# EAGLE library part VENUS638FLPX-L (library UNMODIFIED-SparkFun-GPS)
Venus638FLPX-L GPS Receiver Venus638FLPx is a high performance, low cost, single chip GPS receiver targeting mobile consumer and cellular handset applications. It offers very low power consumption, high sensitivity, and best in class signal acquisition and time-to-first-fix performance. Venus638FLPx contains all the necessary components of a complete GPS receiver, includes 1.2dB cascaded system NF RF front-end, GPS baseband signal processor, 0.5ppm TCXO, 32.768kHz RTC crystal, RTC LDO regulator, and passive components. It requires very low external component count and takes up only 100mm2 PCB footprint. Dedicated massive-correlator signal parameter search engine within the baseband enables rapid search of all the available satellites and acquisition of very weak signal. An advanced track engine allows weak signal tracking and positioning in harsh environments such as urban canyons and under deep foliage. The self-contained architecture keeps GPS processing off the host and allows integration into applications with very little resource. SparkFun Products GPS Module - Venus638FLPx-L 20Hz (14 Channel) <https://www.sparkfun.com/products/10919> (GPS-10919)
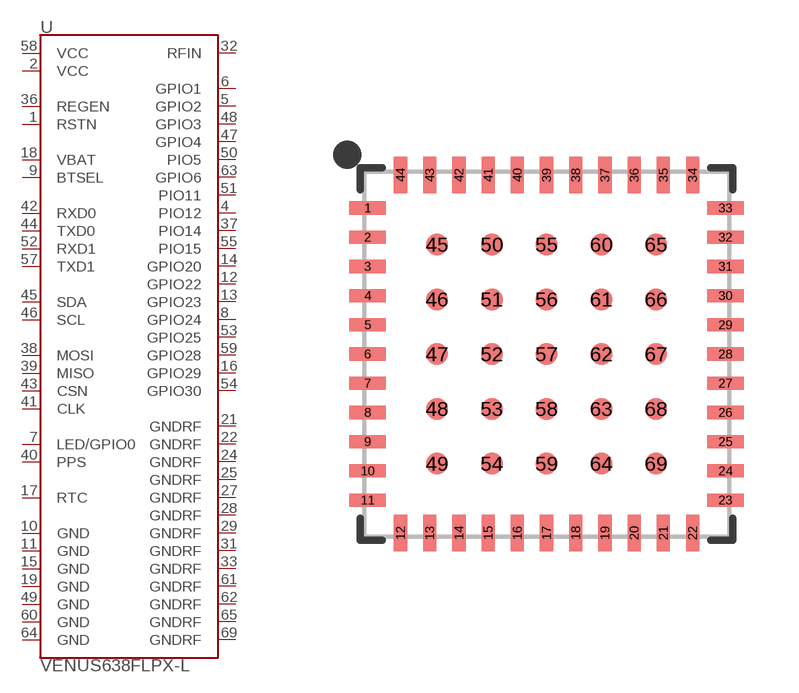
[diagram p3: symbol with the pads of VENUS638FLPX; footprint VENUS638FLPX]

Designator prefix U

## VENUS638FLPX-L (PROD_ID: IC-10734)  [VENUS638FLPX]
1  RSTN
2  VCC
4  PIO12
5  GPIO2
6  GPIO1
7  LED/GPIO0
8  GPIO24
9  BTSEL
10  GND
11  GND
12  GPIO22
13  GPIO23
14  GPIO20
15  GND
16  GPIO29
17  RTC
18  VBAT
19  GND
21  GNDRF
22  GNDRF
24  GNDRF
25  GNDRF
27  GNDRF
28  GNDRF
29  GNDRF
31  GNDRF
32  RFIN
33  GNDRF
36  REGEN
37  PIO14
38  MOSI
39  MISO
40  PPS
41  CLK
42  RXD0
43  CSN
44  TXD0
45  SDA
46  SCL
47  GPIO4
48  GPIO3
49  GND
50  PIO5
51  PIO11
52  RXD1
53  GPIO25
54  GPIO30
55  PIO15
57  TXD1
58  VCC
59  GPIO28
60  GND
61  GNDRF
62  GNDRF
63  GPIO6
64  GND
65  GNDRF
69  GNDRF

## Footprint VENUS638FLPX (pad centres in mm)
Skytraq Venus638FLPX GPS Receiver - 44-pin 10 x 10 mm QFN Venus638FLPx is a high performance, low cost, single chip GPS receiver. Datasheet <http://cdn.sparkfun.com/datasheets/Sensors/GPS/Venus638FLPx.pdf> SparkFun Product Link <https://www.sparkfun.com/products/10919>
smd 1 x 0.36: 1 -4.9,4; 2 -4.9,3.2; 3 -4.9,2.4; 4 -4.9,1.6; 5 -4.9,0.8; 6 -4.9,0; 7 -4.9,-0.8; 8 -4.9,-1.6; 9 -4.9,-2.4; 10 -4.9,-3.2; 11 -4.9,-4; 23 4.9,-4; 24 4.9,-3.2; 25 4.9,-2.4; 26 4.9,-1.6; 27 4.9,-0.8; 28 4.9,0; 29 4.9,0.8; 30 4.9,1.6; 31 4.9,2.4; 32 4.9,3.2; 33 4.9,4
smd 0.36 x 1: 12 -4,-4.9; 13 -3.2,-4.9; 14 -2.4,-4.9; 15 -1.6,-4.9; 16 -0.8,-4.9; 17 0,-4.9; 18 0.8,-4.9; 19 1.6,-4.9; 20 2.4,-4.9; 21 3.2,-4.9; 22 4,-4.9; 34 4,4.9; 35 3.2,4.9; 36 2.4,4.9; 37 1.6,4.9; 38 0.8,4.9; 39 0,4.9; 40 -0.8,4.9; 41 -1.6,4.9; 42 -2.4,4.9; 43 -3.2,4.9; 44 -4,4.9
smd 0.6 x 0.6: 45 -3,3; 46 -3,1.5; 47 -3,0; 48 -3,-1.5; 49 -3,-3; 50 -1.5,3; 51 -1.5,1.5; 52 -1.5,0; 53 -1.5,-1.5; 54 -1.5,-3; 55 0,3; 56 0,1.5; 57 0,0; 58 0,-1.5; 59 0,-3; 60 1.5,3; 61 1.5,1.5; 62 1.5,0; 63 1.5,-1.5; 64 1.5,-3; 65 3,3; 66 3,1.5; 67 3,0; 68 3,-1.5; 69 3,-3